# EAGLE library part AD8232 (library Eagle_CAD_parts)
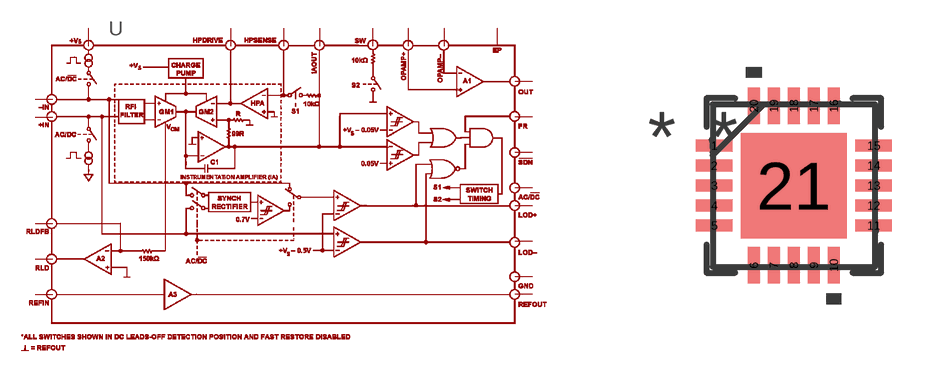
[diagram p10: symbol with the pads of CP_20_10; footprint CP_20_10]

Designator prefix U

## AD8232CP_20_10-M (MANUFACTURER_PART_NUMBER: AD8232ACPZR7; VENDOR: Analog Devices Inc)  [CP_20_10]
1  HPDRIVE  pas
2  -IN  pas
3  +IN  pas
4  RLDFB  pas
5  RLD  pas
6  SW  pas
7  OPAMP+  pas
8  REFOUT  pas
9  OPAMP-  pas
10  OUT  pas
11  LDO-  pas
12  LDO+  pas
13  !SDN  pas
14  AC/!DC  pas
15  FR  pas
16  GND  pas
17  +VS  pas
18  REFIN  pas
19  IAOUT  pas
20  HPSENSE  pas
21  EP  pas

## Footprint CP_20_10 (pad centres in mm)
smd 0.914 x 0.305: 1 -1.994,1; 2 -1.994,0.5; 3 -1.994,0; 4 -1.994,-0.5; 5 -1.994,-1; 11 1.994,-1; 12 1.994,-0.5; 13 1.994,0; 14 1.994,0.5; 15 1.994,1
smd 0.305 x 0.914: 6 -1,-1.994; 7 -0.5,-1.994; 8 0,-1.994; 9 0.5,-1.994; 10 1,-1.994; 16 1,1.994; 17 0.5,1.994; 18 0,1.994; 19 -0.5,1.994; 20 -1,1.994
smd 2.642 x 2.642: 21 0,0